# EAGLE library part LM833MM_NOPB (library LM833MM_NOPB)
Texas Instruments LM833MM/NOPB, Dual Audio Op Amp, 15MHz, Maximum of 36 V, 8-Pin VSSOP Source: Datasheet <http://uk.rs-online.com/web/p/products/9142989P>
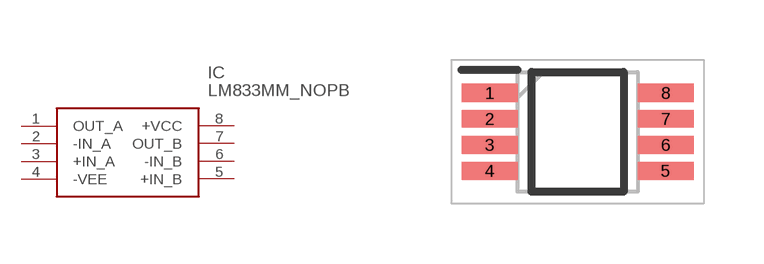
[diagram p0: symbol with the pads of SOP65P490X110-8N; footprint SOP65P490X110-8N]

Designator prefix IC

## LM833MM_NOPB (Description: Texas Instruments LM833MM/NOPB, Dual Audio Op Amp, 15MHz, Maximum of 36 V, 8-Pin VSSOP; Height: 1.1mm; Manufacturer_Name: Texas Instruments; Manufacturer_Part_Number: LM833MM/NOPB; RS_Part_Number: 9142989P; RS_Price-Stock: http://uk.rs-online.com/web/p/products/9142989P)  [SOP65P490X110-8N]
1  OUT_A
2  -IN_A
3  +IN_A
4  -VEE
5  +IN_B
6  -IN_B
7  OUT_B
8  +VCC

## Footprint SOP65P490X110-8N (pad centres in mm)
DGK (S-PDSO-G8)
smd 1.4 x 0.45: 1 -2.2,0.975; 2 -2.2,0.325; 3 -2.2,-0.325; 4 -2.2,-0.975; 5 2.2,-0.975; 6 2.2,-0.325; 7 2.2,0.325; 8 2.2,0.975